# Altium footprint library SD Card.PcbLib: 2 footprints
Each footprint in its own frame and in the unit in brackets; x right, y up, seen from the top. Pads: shape width x height; smd on the part's side, far side on the other; paste and mask are expansions set on the pad; w line width, h text height; cw(c..) or ccw(c..) is an arc to the next point about the centre after c.
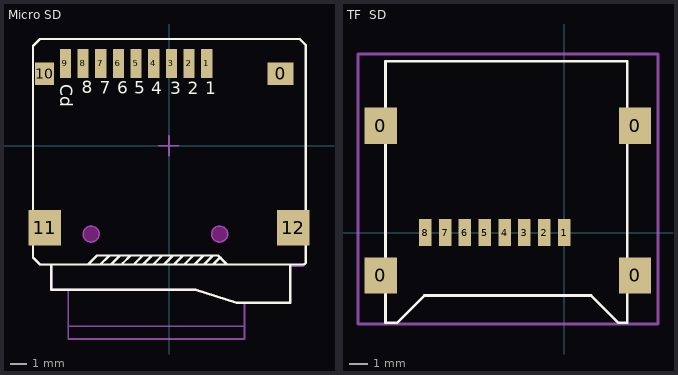
[diagram p0: the footprints below, top view; thin cyan lines are the x and y axes]

## Micro SD [mm]
pads (13):
  rect 1.6x1.4 smd: 0(6.95,4.487)
  rect 0.7x1.8 smd: 1(2.35,5.114) 2(1.25,5.114) 3(0.15,5.114) 4(-0.95,5.114) 5(-2.05,5.114) 6(-3.15,5.114) 7(-4.25,5.114) 8(-5.35,5.114) 9(-6.45,5.114)
  rect 1.2x1.4 smd: 10(-7.75,4.487)
  rect 2.032x2.2 smd: 11(-7.75,-5.114) 12(7.75,-5.114)
Top Overlay:
  lines w0.152: -7.327,-7.409 -7.327,-8.983 1.664,-8.983 ; -4.279,-7.409 -3.746,-6.875 -3.746,-6.85 ; -3.619,-7.409 -3.111,-6.901 -3.111,-6.85 ; -2.882,-7.409 -2.882,-7.332 -2.4,-6.85 ; -2.197,-7.409 -1.638,-6.85 -1.612,-6.85 ; -1.612,-7.409 -1.079,-6.875 -1.079,-6.85 ; -0.977,-7.409 -0.419,-6.85 -0.317,-6.85 ; -0.317,-7.409 0.242,-6.85 0.267,-6.85 ; 0.318,-7.409 0.851,-6.875 0.851,-6.85 ; 0.953,-7.409 1.512,-6.85 1.639,-6.85 ; 1.588,-7.409 2.147,-6.85 2.172,-6.85 ; 1.639,-8.983 4.204,-9.796 7.557,-9.796 7.557,-7.434 ; 2.172,-7.409 2.731,-6.85 ; 2.731,-7.409 3.137,-7.002 3.214,-7.002 ; -8.039,-7.409 -5.041,-7.409 -4.483,-6.85 3.061,-6.85 3.62,-7.409 8.421,-7.409 ; -8.039,-7.409 8.421,-7.409 ; -8.039,-7.409 -8.47,-6.977 -8.47,6.206 -8.039,6.638 8.141,6.638 8.522,6.257 8.522,-7.307 8.421,-7.409
  text "1" at 2.248,3.183 h0.76
  text "2" at 1.156,3.209 h0.76
  text "3" at 0.089,3.209 h0.76
  text "4" at -1.104,3.209 h0.76
  text "5" at -2.171,3.234 h0.76
  text "6" at -3.238,3.234 h0.76
  text "7" at -4.305,3.234 h0.76
  text "8" at -5.422,3.259 h0.76
  text "Cd" at -6.769,3.818 h0.76
Keep-Out Layer:
  board cut-out: 2.65,-5.513 2.65,-5.613 2.726,-5.797 2.867,-5.937 3.051,-6.013 3.15,-6.013 3.249,-6.013 3.433,-5.937 3.574,-5.797 3.65,-5.613 3.65,-5.513 3.65,-5.414 3.574,-5.23 3.433,-5.09 3.249,-5.013 3.15,-5.013 3.051,-5.013 2.867,-5.09 2.726,-5.23 2.65,-5.414
  board cut-out: -5.35,-5.513 -5.35,-5.613 -5.274,-5.797 -5.133,-5.937 -4.949,-6.013 -4.85,-6.013 -4.751,-6.013 -4.567,-5.937 -4.426,-5.797 -4.35,-5.613 -4.35,-5.513 -4.35,-5.414 -4.426,-5.23 -4.567,-5.09 -4.751,-5.013 -4.85,-5.013 -4.949,-5.013 -5.133,-5.09 -5.274,-5.23 -5.35,-5.414
Mechanical 1:
  circle w0.1: c-4.85,-5.513 r0.5
  circle w0.1: c3.15,-5.513 r0.5
Top Component Outline:
  lines w0.1: -6.275,-9.975 -6.275,-12.05 4.7,-12.05 4.7,-9.8 ; -6.275,-8.95 -6.275,-11.25 4.7,-11.25 ; -8.45,-6.975 -8.025,-7.425 -7.375,-7.425 -7.3,-7.5 -7.3,-8.95 1.65,-8.95 4.2,-9.8 7.525,-9.8 7.525,-7.5 8.35,-7.5 8.525,-7.325 8.525,6.25 8.5,6.25 8.125,6.625 -8.025,6.625 -8.05,6.625 -8.45,6.225 -8.45,-6.975
  text "Push" at -1.27,-11.929 h1.02
Top Component Center:
  lines w0.1: -0.625,0 0.6,0 ; 0,-0.625 0,0.6
Top Value:
  text "'.Comment'" at -3.322,-0.455 h1.52
Top Designator:
  text "'.Designator'" at -5.134,-0.694 h1.78
3D body "sdcard.STEP": height 1.8, standoff -0.7, extent -8.004,-9.79 8.269,5.405
3D body "User Library-microsd card.STEP": height 1.4, standoff 0.4, extent -6.306,-12.05 4.706,2.95

## TF  SD [mm]
pads (12):
  rect 1.8x2 smd: 0(-10.168,-2.378) 0(-10.168,5.922) 0(3.932,-2.378) 0(3.932,5.922)
  rect 0.7x1.5 smd: 1(0,0) 2(-1.1,0) 3(-2.2,0) 4(-3.3,0) 5(-4.4,0) 6(-5.5,0) 7(-6.6,0) 8(-7.7,0)
Top Overlay:
  lines w0.152: -9.9,-5 -9.9,9.5 0,9.5 3.5,9.5 3.5,-5 3,-5 1.5,-3.5 -7.75,-3.5 -9.25,-5 -9.9,-5
Mechanical 29:
  lines w0.152: -11.43,-5.08 -11.43,9.906 5.207,9.906 5.207,-5.08 -11.43,-5.08
  text "'.Designator'" at -9.144,2.159 h1.02
3D body "User Library-5009010801.STEP": height 1.93, standoff -0.02, extent -10.5,-5 4.1,9.5